# EAGLE library part C16 (library con-ninigi-3.96)
NINIGI
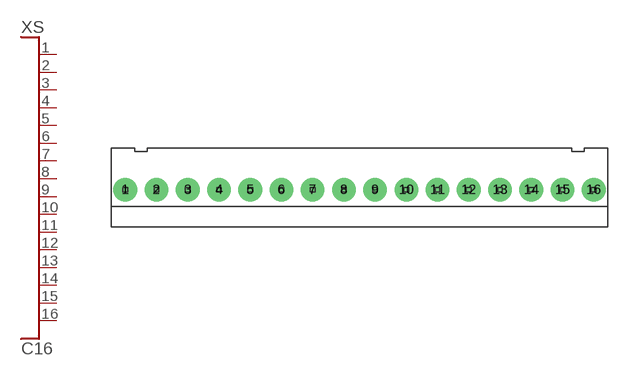
[diagram p10: symbol with the pads of NINIGI16C; footprint NINIGI16C]

Designator prefix XS

## C16  [NINIGI16C]
1  P$1
2  P$2
3  P$3
4  P$4
5  P$5
6  P$6
7  P$7
8  P$8
9  P$9
10  P$10
11  P$11
12  P$12
13  P$13
14  P$14
15  P$15
16  P$16

## Footprint NINIGI16C (pad centres in mm)
drill 1.6 pad 3: 1 -29.7,0; 2 -25.74,0; 3 -21.78,0; 4 -17.82,0; 5 -13.86,0; 6 -9.9,0; 7 -5.94,0; 8 -1.98,0; 9 1.98,0; 10 5.94,0; 11 9.9,0; 12 13.86,0; 13 17.82,0; 14 21.78,0; 15 25.74,0; 16 29.7,0